# Altium schematic symbol library ADM1085AKS-REEL7.SchLib: 1 symbol
Pins are listed as number, name and electrical type; pins without a type are passive.

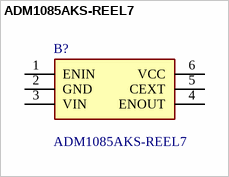
[diagram p0: symbol ADM1085AKS-REEL7]

## ADM1085AKS-REEL7
designator B?
IC SIMPLE SEQUENCER OD SC70-6; Manufacturer_Name: Analog Devices; Geometry.Height: 1.1mm; Manufacturer_Part_Number: ADM1085AKS-REEL7; Mouser Part Number: *; Mouser Price/Stock: *; Arrow Part Number: *; Arrow Price/Stock: *; Datasheet Link: http://www.analog.com/media/en/technical-documentation/data-sheets/ADM1085_1086_1087.pdf
footprint SOT65P210X110-6N
pins: 1 ENIN, 2 GND, 3 VIN, 4 ENOUT, 5 CEXT, 6 VCC